# EAGLE library part TTGO (library TTGO)
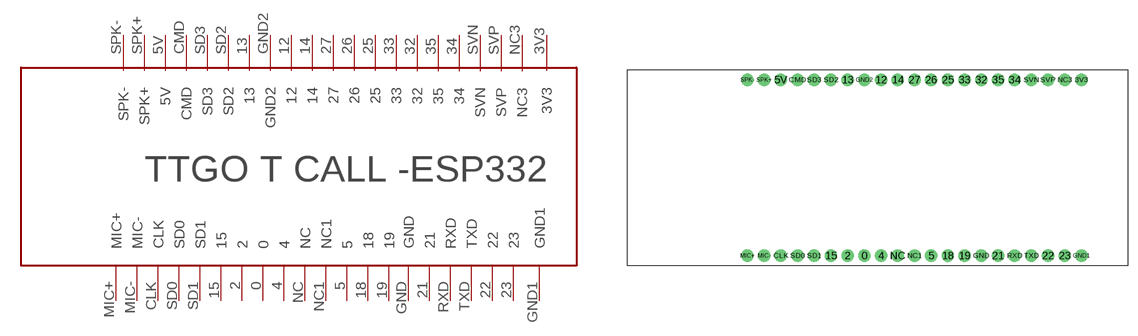
[diagram p0: symbol with the pads of TTGO-TCALL; footprint TTGO-TCALL]

Designator prefix -

## TTGO  [TTGO-TCALL]
0  0
2  2
3V3  3V3
4  4
5  5
5V  5V
12  12
13  13
14  14
15  15
18  18
19  19
21  21
22  22
23  23
25  25
26  26
27  27
32  32
33  33
34  34
35  35
CLK  CLK
CMD  CMD
GND  GND
GND1  GND1
GND2  GND2
MIC+  MIC+
MIC-  MIC-
NC  NC
NC1  NC1
NC3  NC3
RXD  RXD
SD0  SD0
SD1  SD1
SD2  SD2
SD3  SD3
SPK+  SPK+
SPK-  SPK-
SVN  SVN
SVP  SVP
TXD  TXD

## Footprint TTGO-TCALL (pad centres in mm)
drill 1.016 pad 1.88: 0 17.78,0; 2 15.24,0; 3V3 50.8,26.77; 4 20.32,0; 5 27.94,0; 5V 5.08,26.77; 12 20.32,26.77; 13 15.24,26.77; 14 22.86,26.77; 15 12.7,0; 18 30.48,0; 19 33.02,0; 21 38.1,0; 22 45.72,0; 23 48.26,0; 25 30.48,26.77; 26 27.94,26.77; 27 25.4,26.77; 32 35.56,26.77; 33 33.02,26.77; 34 40.64,26.77; 35 38.1,26.77; CLK 5.08,0; CMD 7.62,26.77; GND 35.56,0; GND1 50.8,0; GND2 17.78,26.77; MIC+ 0,0; MIC- 2.54,0; NC 22.86,0; NC1 25.4,0; NC3 48.26,26.77; RXD 40.64,0; SD0 7.62,0; SD1 10.16,0; SD2 12.7,26.77; SD3 10.16,26.77; SPK+ 2.54,26.77; SPK- 0,26.77; SVN 43.18,26.77; SVP 45.72,26.77; TXD 43.18,0